# EAGLE library part STM32F303 (library custom)
ARM-based 32-bit MCU
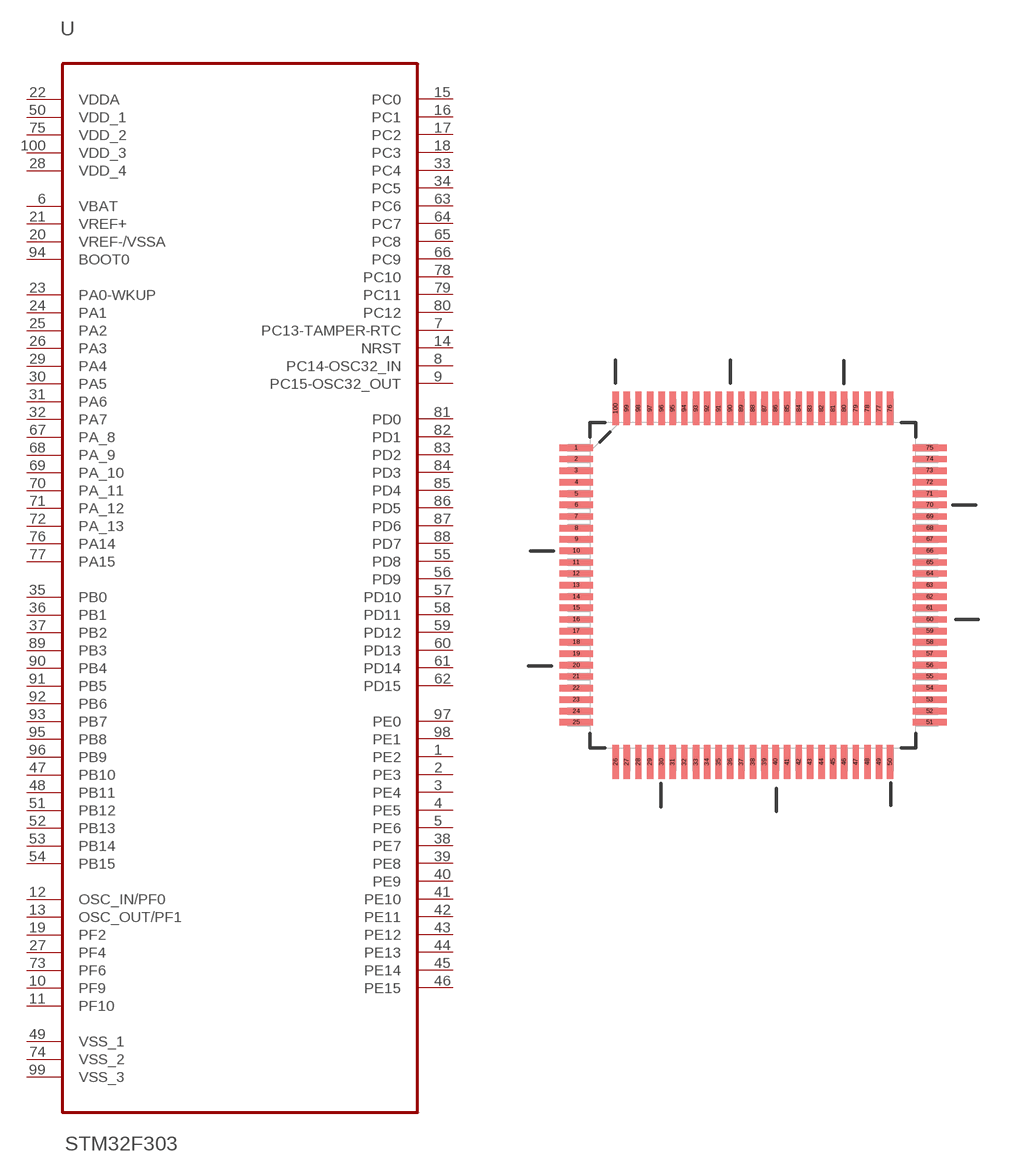
[diagram p22: symbol with the pads of QFP50P1600X1600X160-100N; footprint QFP50P1600X1600X160-100N]

Designator prefix U

## STM32F303 (MPN: STM32F303xB/C; OC_FARNELL: 2215110; PACKAGE: LQFP-100; SUPPLIER: STMICROELECTRONICS)  [QFP50P1600X1600X160-100N]
1  PE2
2  PE3
3  PE4
4  PE5
5  PE6
6  VBAT  pwr
7  PC13-TAMPER-RTC
8  PC14-OSC32_IN
9  PC15-OSC32_OUT
10  PF9  pwr
11  PF10  pwr
12  OSC_IN/PF0  in
13  OSC_OUT/PF1  out
14  NRST
15  PC0
16  PC1
17  PC2
18  PC3
19  PF2  pwr
20  VREF-/VSSA  pwr
21  VREF+  pwr
22  VDDA  pwr
23  PA0-WKUP
24  PA1
25  PA2
26  PA3
27  PF4  pwr
28  VDD_4  pwr
29  PA4
30  PA5
31  PA6
32  PA7
33  PC4
34  PC5
35  PB0
36  PB1
37  PB2
38  PE7
39  PE8
40  PE9
41  PE10
42  PE11
43  PE12
44  PE13
45  PE14
46  PE15
47  PB10
48  PB11
49  VSS_1  pwr
50  VDD_1  pwr
51  PB12
52  PB13
53  PB14
54  PB15
55  PD8
56  PD9
57  PD10
58  PD11
59  PD12
60  PD13
61  PD14
62  PD15
63  PC6
64  PC7
65  PC8
66  PC9
67  PA_8
68  PA_9
69  PA_10
70  PA_11
71  PA_12
72  PA_13
73  PF6  nc
74  VSS_2  pwr
75  VDD_2  pwr
76  PA14
77  PA15
78  PC10
79  PC11
80  PC12
81  PD0
82  PD1
83  PD2
84  PD3
85  PD4
86  PD5
87  PD6
88  PD7
89  PB3
90  PB4
91  PB5
92  PB6
93  PB7
94  BOOT0  in
95  PB8
96  PB9
97  PE0
98  PE1
99  VSS_3  pwr
100  VDD_3  pwr

## Footprint QFP50P1600X1600X160-100N (pad centres in mm)
smd 1.473 x 0.279: 1 -7.722,5.994; 2 -7.722,5.512; 3 -7.722,5.004; 4 -7.722,4.496; 5 -7.722,3.988; 6 -7.722,3.505; 7 -7.722,2.997; 8 -7.722,2.489; 9 -7.722,2.007; 10 -7.722,1.499; 11 -7.722,0.991; 12 -7.722,0.508; 13 -7.722,0; 14 -7.722,-0.508; 15 -7.722,-0.991; 16 -7.722,-1.499; 17 -7.722,-2.007; 18 -7.722,-2.489; 19 -7.722,-2.997; 20 -7.722,-3.505; 21 -7.722,-3.988; 22 -7.722,-4.496; 23 -7.722,-5.004; 24 -7.722,-5.512; 25 -7.722,-5.994; 51 7.722,-5.994; 52 7.722,-5.512; 53 7.722,-5.004; 54 7.722,-4.496; 55 7.722,-3.988; 56 7.722,-3.505; 57 7.722,-2.997; 58 7.722,-2.489; 59 7.722,-2.007; 60 7.722,-1.499; 61 7.722,-0.991; 62 7.722,-0.508; 63 7.722,0; 64 7.722,0.508; 65 7.722,0.991; 66 7.722,1.499; 67 7.722,2.007; 68 7.722,2.489; 69 7.722,2.997; 70 7.722,3.505; 71 7.722,3.988; 72 7.722,4.496; 73 7.722,5.004; 74 7.722,5.512; 75 7.722,5.994
smd 0.279 x 1.473: 26 -5.994,-7.722; 27 -5.512,-7.722; 28 -5.004,-7.722; 29 -4.496,-7.722; 30 -3.988,-7.722; 31 -3.505,-7.722; 32 -2.997,-7.722; 33 -2.489,-7.722; 34 -2.007,-7.722; 35 -1.499,-7.722; 36 -0.991,-7.722; 37 -0.508,-7.722; 38 0,-7.722; 39 0.508,-7.722; 40 0.991,-7.722; 41 1.499,-7.722; 42 2.007,-7.722; 43 2.489,-7.722; 44 2.997,-7.722; 45 3.505,-7.722; 46 3.988,-7.722; 47 4.496,-7.722; 48 5.004,-7.722; 49 5.512,-7.722; 50 5.994,-7.722; 76 5.994,7.722; 77 5.512,7.722; 78 5.004,7.722; 79 4.496,7.722; 80 3.988,7.722; 81 3.505,7.722; 82 2.997,7.722; 83 2.489,7.722; 84 2.007,7.722; 85 1.499,7.722; 86 0.991,7.722; 87 0.508,7.722; 88 0,7.722; 89 -0.508,7.722; 90 -0.991,7.722; 91 -1.499,7.722; 92 -2.007,7.722; 93 -2.489,7.722; 94 -2.997,7.722; 95 -3.505,7.722; 96 -3.988,7.722; 97 -4.496,7.722; 98 -5.004,7.722; 99 -5.512,7.722; 100 -5.994,7.722